# Altium footprint library 2020-03-28_05-44-17.PcbLib: 3 footprints
Each footprint in its own frame and in the unit in brackets; x right, y up, seen from the top. Pads: shape width x height; smd on the part's side, far side on the other; paste and mask are expansions set on the pad; w line width, h text height; cw(c..) or ccw(c..) is an arc to the next point about the centre after c.
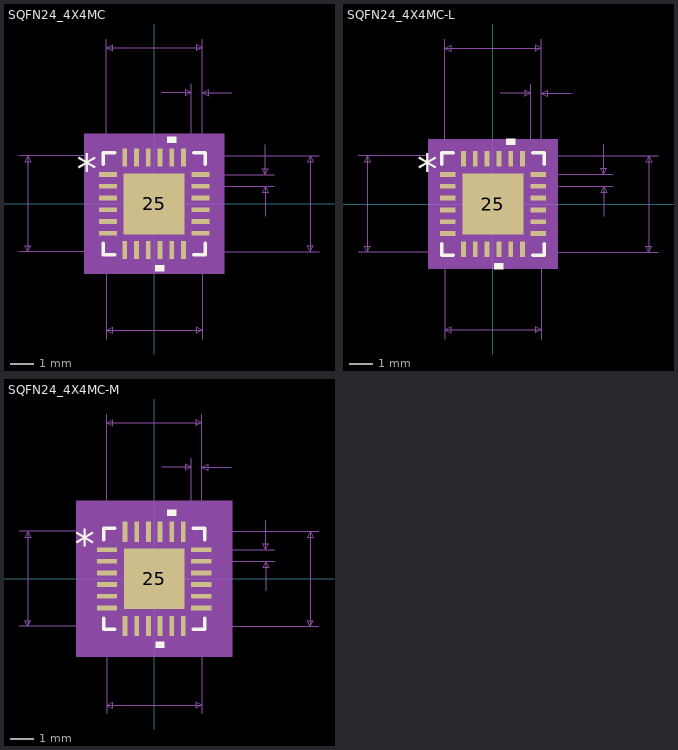
[diagram p0: the footprints below, top view; thin cyan lines are the x and y axes]

## SQFN24_4X4MC [mil]
pads (25):
  rect 30x8 smd paste+0 mask+0: 1(-77.5,49.21) 2(-77.5,29.53) 3(-77.5,9.84) 4(-77.5,-9.84) 5(-77.5,-29.53) 6(-77.5,-49.21) 13(77.5,-49.21) 14(77.5,-29.53) 15(77.5,-9.84) 16(77.5,9.84) 17(77.5,29.53) 18(77.5,49.21)
  rect 8x30 smd paste+0 mask+0: 7(-49.21,-77.5) 8(-29.53,-77.5) 9(-9.84,-77.5) 10(9.84,-77.5) 11(29.53,-77.5) 12(49.21,-77.5) 19(49.21,77.5) 20(29.53,77.5) 21(9.84,77.5) 22(-9.84,77.5) 23(-29.53,77.5) 24(-49.21,77.5)
  rect 102x102 smd paste-50.5 mask+0: 25(0,0)
Top Overlay:
  region: 17.34,-102.5 2.34,-102.5 2.34,-112.5 17.34,-112.5
  region: 37.03,102.5 22.03,102.5 22.03,112.5 37.03,112.5
  lines w6: -85.5,-66.31 -85.5,-85.5 -66.31,-85.5 ; -85.5,66.31 -85.5,85.5 -66.31,85.5 ; 66.31,-85.5 85.5,-85.5 85.5,-66.31 ; 66.31,85.5 85.5,85.5 85.5,66.31
  text "*" at -130,34.06 h50
Top Paste:
  region: -3.94,47.06 -47.06,47.06 -47.06,3.94 -3.94,3.94
  region: -3.94,-3.94 -47.06,-3.94 -47.06,-47.06 -3.94,-47.06
  region: 47.06,47.06 3.94,47.06 3.94,3.94 47.06,3.94
  region: 47.06,-3.94 3.94,-3.94 3.94,-47.06 47.06,-47.06
Mechanical 5:
  region: 117.5,-117.5 -117.5,-117.5 -117.5,117.5 117.5,117.5
Mechanical 7:
  lines w1: -226.5,-80.5 80.5,-80.5 ; -226.5,80.5 80.5,80.5 80.5,-226.5 ; -80.5,-226.5 -80.5,80.5 ; -80.5,49.21 -80.5,276.5 ; 12.5,186.5 62.5,186.5 ; 49.21,-80.5 276.5,-80.5 ; 49.21,80.5 276.5,80.5 ; 62.5,49.21 62.5,201.5 ; 77.5,29.53 201.5,29.53 ; 77.5,49.21 201.5,49.21 ; 80.5,201.5 80.5,49.21 80.5,276.5 ; 130.5,186.5 80.5,186.5 ; 186.5,-20.47 186.5,29.53 ; 186.5,99.21 186.5,49.21 ; -211.5,-80.5 -211.5,80.5 ; -211.5,-80.5 -216.5,-70.5 -206.5,-70.5 -211.5,-80.5 ; -211.5,80.5 -216.5,70.5 -206.5,70.5 -211.5,80.5 ; -80.5,-211.5 80.5,-211.5 ; -80.5,-211.5 -70.5,-206.5 -70.5,-216.5 -80.5,-211.5 ; -80.5,261.5 80.5,261.5 ; -80.5,261.5 -70.5,266.5 -70.5,256.5 -80.5,261.5 ; 62.5,186.5 52.5,191.5 52.5,181.5 62.5,186.5 ; 80.5,-211.5 70.5,-206.5 70.5,-216.5 80.5,-211.5 ; 80.5,186.5 90.5,191.5 90.5,181.5 80.5,186.5 ; 80.5,261.5 70.5,266.5 70.5,256.5 80.5,261.5 ; 186.5,29.53 181.5,19.53 191.5,19.53 186.5,29.53 ; 186.5,49.21 181.5,59.21 191.5,59.21 186.5,49.21 ; 261.5,-80.5 261.5,80.5 ; 261.5,-80.5 256.5,-70.5 266.5,-70.5 261.5,-80.5 ; 261.5,80.5 256.5,70.5 266.5,70.5 261.5,80.5
  text "Default Padstyle: RX8Y30D0T" at -337.5,-402.5 h50
  text "Heat Tab Padstyle: RX102Y102D0T" at -387.5,-462.5 h50
  text "Alt 1 Padstyle: OX60Y90D30P" at -337.5,-582.5 h50
  text "Alt 2 Padstyle: OX90Y60D30P" at -337.5,-642.5 h50
  text "0.02in/0.5mm" at 206.5,26.87 h25
  text "0.018in/0.457mm" at -22.25,206.5 h25
  text "0.161in/4.089mm" at -93.75,281.5 h25
  text "0.161in/4.089mm" at 281.5,-12.5 h25
  text "0.161in/4.089mm" at -419,-12.5 h25
  text "0.161in/4.089mm" at -93.75,-256.5 h25
Mechanical 13:
  lines w1: -80.5,30.5 -30.5,80.5 ; -80.5,-80.5 80.5,-80.5 ; -80.5,-80.5 -80.5,80.5 ; -80.5,-80.5 -80.5,-80.5 ; -80.5,-55.21 -80.5,-43.21 ; -80.5,-55.21 -80.5,-43.21 ; -80.5,-55.21 -80.5,-55.21 ; -80.5,-43.21 -80.5,-43.21 ; -80.5,-35.53 -80.5,-23.53 ; -80.5,-35.53 -80.5,-23.53 ; -80.5,-35.53 -80.5,-35.53 ; -80.5,-23.53 -80.5,-23.53 ; -80.5,-15.84 -80.5,-3.84 ; -80.5,-15.84 -80.5,-3.84 ; -80.5,-15.84 -80.5,-15.84 ; -80.5,-3.84 -80.5,-3.84 ; -80.5,3.84 -80.5,15.84 ; -80.5,3.84 -80.5,15.84 ; -80.5,3.84 -80.5,3.84 ; -80.5,15.84 -80.5,15.84 ; -80.5,23.53 -80.5,35.53 ; -80.5,23.53 -80.5,35.53 ; -80.5,23.53 -80.5,23.53 ; -80.5,35.53 -80.5,35.53 ; -80.5,43.21 -80.5,55.21 ; -80.5,43.21 -80.5,55.21 ; -80.5,43.21 -80.5,43.21 ; -80.5,55.21 -80.5,55.21 ; -80.5,80.5 80.5,80.5 ; -80.5,80.5 -80.5,80.5 ; -55.21,-80.5 -43.21,-80.5 ; -55.21,-80.5 -55.21,-80.5 ; -55.21,-80.5 -43.21,-80.5 ; -55.21,80.5 -43.21,80.5 ; -55.21,80.5 -43.21,80.5 ; -55.21,80.5 -55.21,80.5 ; -43.21,-80.5 -43.21,-80.5 ; -43.21,80.5 -43.21,80.5 ; -35.53,-80.5 -23.53,-80.5 ; -35.53,-80.5 -35.53,-80.5 ; -35.53,-80.5 -23.53,-80.5 ; -35.53,80.5 -23.53,80.5 ; -35.53,80.5 -23.53,80.5 ; -35.53,80.5 -35.53,80.5 ; -23.53,-80.5 -23.53,-80.5 ; -23.53,80.5 -23.53,80.5 ; -15.84,-80.5 -3.84,-80.5 ; -15.84,-80.5 -15.84,-80.5 ; -15.84,-80.5 -3.84,-80.5 ; -15.84,80.5 -3.84,80.5 ; -15.84,80.5 -3.84,80.5 ; -15.84,80.5 -15.84,80.5 ; -3.84,-80.5 -3.84,-80.5 ; -3.84,80.5 -3.84,80.5 ; 3.84,-80.5 15.84,-80.5 ; 3.84,-80.5 3.84,-80.5 ; 3.84,-80.5 15.84,-80.5 ; 3.84,80.5 15.84,80.5 ; 3.84,80.5 15.84,80.5 ; 3.84,80.5 3.84,80.5 ; 15.84,-80.5 15.84,-80.5 ; 15.84,80.5 15.84,80.5 ; 23.53,-80.5 35.53,-80.5 ; 23.53,-80.5 23.53,-80.5 ; 23.53,-80.5 35.53,-80.5 ; 23.53,80.5 35.53,80.5 ; 23.53,80.5 35.53,80.5 ; 23.53,80.5 23.53,80.5 ; 35.53,-80.5 35.53,-80.5 ; 35.53,80.5 35.53,80.5 ; 43.21,-80.5 55.21,-80.5 ; 43.21,-80.5 43.21,-80.5 ; 43.21,-80.5 55.21,-80.5 ; 43.21,80.5 55.21,80.5 ; 43.21,80.5 55.21,80.5 ; 43.21,80.5 43.21,80.5 ; 55.21,-80.5 55.21,-80.5 ; 55.21,80.5 55.21,80.5 ; 80.5,-80.5 80.5,-80.5 ; 80.5,-80.5 80.5,80.5 ; 80.5,-55.21 80.5,-43.21 ; 80.5,-55.21 80.5,-55.21 ; 80.5,-55.21 80.5,-43.21 ; 80.5,-43.21 80.5,-43.21 ; 80.5,-35.53 80.5,-23.53 ; 80.5,-35.53 80.5,-35.53 ; 80.5,-35.53 80.5,-23.53 ; 80.5,-23.53 80.5,-23.53 ; 80.5,-15.84 80.5,-3.84 ; 80.5,-15.84 80.5,-15.84 ; 80.5,-15.84 80.5,-3.84 ; 80.5,-3.84 80.5,-3.84 ; 80.5,3.84 80.5,15.84 ; 80.5,3.84 80.5,3.84 ; 80.5,3.84 80.5,15.84 ; 80.5,15.84 80.5,15.84 ; 80.5,23.53 80.5,35.53 ; 80.5,23.53 80.5,23.53 ; 80.5,23.53 80.5,35.53 ; 80.5,35.53 80.5,35.53 ; 80.5,43.21 80.5,55.21 ; 80.5,43.21 80.5,43.21 ; 80.5,43.21 80.5,55.21 ; 80.5,55.21 80.5,55.21 ; 80.5,80.5 80.5,80.5
  text "*" at -75,34.06 h50
Mechanical 15:
  region: -63.21,-90.5 -90.5,-90.5 -90.5,-63.21 -102.5,-63.21 -102.5,63.21 -90.5,63.21 -90.5,90.5 -63.21,90.5 -63.21,102.5 63.21,102.5 63.21,90.5 90.5,90.5 90.5,63.21 102.5,63.21 102.5,-63.21 90.5,-63.21 90.5,-90.5 63.21,-90.5 63.21,-102.5 -63.21,-102.5
  lines w6: -102.5,-63.21 -90.5,-63.21 -90.5,-90.5 -63.21,-90.5 -63.21,-102.5 63.21,-102.5 63.21,-90.5 90.5,-90.5 90.5,-63.21 102.5,-63.21 102.5,63.21 90.5,63.21 90.5,90.5 63.21,90.5 63.21,102.5 -63.21,102.5 -63.21,90.5 -90.5,90.5 -90.5,63.21 -102.5,63.21 -102.5,-63.21
3D body: height 10, standoff 0, extent 0,0 10,10

## SQFN24_4X4MC-L [mil]
pads (25):
  rect 26x8 smd paste+0 mask+0: 1(-75.5,49.21) 2(-75.5,29.53) 3(-75.5,9.84) 4(-75.5,-9.84) 5(-75.5,-29.53) 6(-75.5,-49.21) 13(75.5,-49.21) 14(75.5,-29.53) 15(75.5,-9.84) 16(75.5,9.84) 17(75.5,29.53) 18(75.5,49.21)
  rect 8x26 smd paste+0 mask+0: 7(-49.21,-75.5) 8(-29.53,-75.5) 9(-9.84,-75.5) 10(9.84,-75.5) 11(29.53,-75.5) 12(49.21,-75.5) 19(49.21,75.5) 20(29.53,75.5) 21(9.84,75.5) 22(-9.84,75.5) 23(-29.53,75.5) 24(-49.21,75.5)
  rect 102x102 smd paste-50.5 mask+0: 25(0,0)
Top Overlay:
  region: 17.34,-98.5 2.34,-98.5 2.34,-108.5 17.34,-108.5
  region: 37.03,98.5 22.03,98.5 22.03,108.5 37.03,108.5
  lines w6: -85.5,-66.31 -85.5,-85.5 -66.31,-85.5 ; -85.5,66.31 -85.5,85.5 -66.31,85.5 ; 66.31,-85.5 85.5,-85.5 85.5,-66.31 ; 66.31,85.5 85.5,85.5 85.5,66.31
  text "*" at -126,34.06 h50
Top Paste:
  region: -3.94,47.06 -47.06,47.06 -47.06,3.94 -3.94,3.94
  region: -3.94,-3.94 -47.06,-3.94 -47.06,-47.06 -3.94,-47.06
  region: 47.06,47.06 3.94,47.06 3.94,3.94 47.06,3.94
  region: 47.06,-3.94 3.94,-3.94 3.94,-47.06 47.06,-47.06
Mechanical 5:
  region: 107.5,-107.5 -107.5,-107.5 -107.5,107.5 107.5,107.5
Mechanical 7:
  lines w1: -224.5,-80.5 80.5,-80.5 ; -224.5,80.5 80.5,80.5 80.5,-224.5 ; -80.5,-224.5 -80.5,80.5 ; -80.5,49.21 -80.5,274.5 ; 12.5,184.5 62.5,184.5 ; 49.21,-80.5 274.5,-80.5 ; 49.21,80.5 274.5,80.5 ; 62.5,49.21 62.5,199.5 ; 75.5,29.53 199.5,29.53 ; 75.5,49.21 199.5,49.21 ; 80.5,199.5 80.5,49.21 80.5,274.5 ; 130.5,184.5 80.5,184.5 ; 184.5,-20.47 184.5,29.53 ; 184.5,99.21 184.5,49.21 ; -209.5,-80.5 -209.5,80.5 ; -209.5,-80.5 -214.5,-70.5 -204.5,-70.5 -209.5,-80.5 ; -209.5,80.5 -214.5,70.5 -204.5,70.5 -209.5,80.5 ; -80.5,-209.5 80.5,-209.5 ; -80.5,-209.5 -70.5,-204.5 -70.5,-214.5 -80.5,-209.5 ; -80.5,259.5 80.5,259.5 ; -80.5,259.5 -70.5,264.5 -70.5,254.5 -80.5,259.5 ; 62.5,184.5 52.5,189.5 52.5,179.5 62.5,184.5 ; 80.5,-209.5 70.5,-204.5 70.5,-214.5 80.5,-209.5 ; 80.5,184.5 90.5,189.5 90.5,179.5 80.5,184.5 ; 80.5,259.5 70.5,264.5 70.5,254.5 80.5,259.5 ; 184.5,29.53 179.5,19.53 189.5,19.53 184.5,29.53 ; 184.5,49.21 179.5,59.21 189.5,59.21 184.5,49.21 ; 259.5,-80.5 259.5,80.5 ; 259.5,-80.5 254.5,-70.5 264.5,-70.5 259.5,-80.5 ; 259.5,80.5 254.5,70.5 264.5,70.5 259.5,80.5
  text "Default Padstyle: RX8Y26D0T" at -337.5,-398.5 h50
  text "Heat Tab Padstyle: RX102Y102D0T" at -387.5,-458.5 h50
  text "Alt 1 Padstyle: OX60Y90D30P" at -337.5,-578.5 h50
  text "Alt 2 Padstyle: OX90Y60D30P" at -337.5,-638.5 h50
  text "0.02in/0.5mm" at 204.5,26.87 h25
  text "0.018in/0.457mm" at -22.25,204.5 h25
  text "0.161in/4.089mm" at -93.75,279.5 h25
  text "0.161in/4.089mm" at 279.5,-12.5 h25
  text "0.161in/4.089mm" at -417,-12.5 h25
  text "0.161in/4.089mm" at -93.75,-254.5 h25
Mechanical 13:
  lines w1: -80.5,30.5 -30.5,80.5 ; -80.5,-80.5 80.5,-80.5 ; -80.5,-80.5 -80.5,80.5 ; -80.5,-80.5 -80.5,-80.5 ; -80.5,-55.21 -80.5,-43.21 ; -80.5,-55.21 -80.5,-43.21 ; -80.5,-55.21 -80.5,-55.21 ; -80.5,-43.21 -80.5,-43.21 ; -80.5,-35.53 -80.5,-23.53 ; -80.5,-35.53 -80.5,-23.53 ; -80.5,-35.53 -80.5,-35.53 ; -80.5,-23.53 -80.5,-23.53 ; -80.5,-15.84 -80.5,-3.84 ; -80.5,-15.84 -80.5,-3.84 ; -80.5,-15.84 -80.5,-15.84 ; -80.5,-3.84 -80.5,-3.84 ; -80.5,3.84 -80.5,15.84 ; -80.5,3.84 -80.5,15.84 ; -80.5,3.84 -80.5,3.84 ; -80.5,15.84 -80.5,15.84 ; -80.5,23.53 -80.5,35.53 ; -80.5,23.53 -80.5,35.53 ; -80.5,23.53 -80.5,23.53 ; -80.5,35.53 -80.5,35.53 ; -80.5,43.21 -80.5,55.21 ; -80.5,43.21 -80.5,55.21 ; -80.5,43.21 -80.5,43.21 ; -80.5,55.21 -80.5,55.21 ; -80.5,80.5 80.5,80.5 ; -80.5,80.5 -80.5,80.5 ; -55.21,-80.5 -43.21,-80.5 ; -55.21,-80.5 -55.21,-80.5 ; -55.21,-80.5 -43.21,-80.5 ; -55.21,80.5 -43.21,80.5 ; -55.21,80.5 -43.21,80.5 ; -55.21,80.5 -55.21,80.5 ; -43.21,-80.5 -43.21,-80.5 ; -43.21,80.5 -43.21,80.5 ; -35.53,-80.5 -23.53,-80.5 ; -35.53,-80.5 -35.53,-80.5 ; -35.53,-80.5 -23.53,-80.5 ; -35.53,80.5 -23.53,80.5 ; -35.53,80.5 -23.53,80.5 ; -35.53,80.5 -35.53,80.5 ; -23.53,-80.5 -23.53,-80.5 ; -23.53,80.5 -23.53,80.5 ; -15.84,-80.5 -3.84,-80.5 ; -15.84,-80.5 -15.84,-80.5 ; -15.84,-80.5 -3.84,-80.5 ; -15.84,80.5 -3.84,80.5 ; -15.84,80.5 -3.84,80.5 ; -15.84,80.5 -15.84,80.5 ; -3.84,-80.5 -3.84,-80.5 ; -3.84,80.5 -3.84,80.5 ; 3.84,-80.5 15.84,-80.5 ; 3.84,-80.5 3.84,-80.5 ; 3.84,-80.5 15.84,-80.5 ; 3.84,80.5 15.84,80.5 ; 3.84,80.5 15.84,80.5 ; 3.84,80.5 3.84,80.5 ; 15.84,-80.5 15.84,-80.5 ; 15.84,80.5 15.84,80.5 ; 23.53,-80.5 35.53,-80.5 ; 23.53,-80.5 23.53,-80.5 ; 23.53,-80.5 35.53,-80.5 ; 23.53,80.5 35.53,80.5 ; 23.53,80.5 35.53,80.5 ; 23.53,80.5 23.53,80.5 ; 35.53,-80.5 35.53,-80.5 ; 35.53,80.5 35.53,80.5 ; 43.21,-80.5 55.21,-80.5 ; 43.21,-80.5 43.21,-80.5 ; 43.21,-80.5 55.21,-80.5 ; 43.21,80.5 55.21,80.5 ; 43.21,80.5 55.21,80.5 ; 43.21,80.5 43.21,80.5 ; 55.21,-80.5 55.21,-80.5 ; 55.21,80.5 55.21,80.5 ; 80.5,-80.5 80.5,-80.5 ; 80.5,-80.5 80.5,80.5 ; 80.5,-55.21 80.5,-43.21 ; 80.5,-55.21 80.5,-55.21 ; 80.5,-55.21 80.5,-43.21 ; 80.5,-43.21 80.5,-43.21 ; 80.5,-35.53 80.5,-23.53 ; 80.5,-35.53 80.5,-35.53 ; 80.5,-35.53 80.5,-23.53 ; 80.5,-23.53 80.5,-23.53 ; 80.5,-15.84 80.5,-3.84 ; 80.5,-15.84 80.5,-15.84 ; 80.5,-15.84 80.5,-3.84 ; 80.5,-3.84 80.5,-3.84 ; 80.5,3.84 80.5,15.84 ; 80.5,3.84 80.5,3.84 ; 80.5,3.84 80.5,15.84 ; 80.5,15.84 80.5,15.84 ; 80.5,23.53 80.5,35.53 ; 80.5,23.53 80.5,23.53 ; 80.5,23.53 80.5,35.53 ; 80.5,35.53 80.5,35.53 ; 80.5,43.21 80.5,55.21 ; 80.5,43.21 80.5,43.21 ; 80.5,43.21 80.5,55.21 ; 80.5,55.21 80.5,55.21 ; 80.5,80.5 80.5,80.5
  text "*" at -75,34.06 h50
Mechanical 15:
  region: -57.21,-84.5 -84.5,-84.5 -84.5,-57.21 -92.5,-57.21 -92.5,57.21 -84.5,57.21 -84.5,84.5 -57.21,84.5 -57.21,92.5 57.21,92.5 57.21,84.5 84.5,84.5 84.5,57.21 92.5,57.21 92.5,-57.21 84.5,-57.21 84.5,-84.5 57.21,-84.5 57.21,-92.5 -57.21,-92.5
  lines w6: -92.5,-57.21 -84.5,-57.21 -84.5,-84.5 -57.21,-84.5 -57.21,-92.5 57.21,-92.5 57.21,-84.5 84.5,-84.5 84.5,-57.21 92.5,-57.21 92.5,57.21 84.5,57.21 84.5,84.5 57.21,84.5 57.21,92.5 -57.21,92.5 -57.21,84.5 -84.5,84.5 -84.5,57.21 -92.5,57.21 -92.5,-57.21
3D body: height 10, standoff 0, extent 0,0 10,10

## SQFN24_4X4MC-M [mil]
pads (25):
  rect 34x8 smd paste+0 mask+0: 1(-79.5,49.21) 2(-79.5,29.53) 3(-79.5,9.84) 4(-79.5,-9.84) 5(-79.5,-29.53) 6(-79.5,-49.21) 13(79.5,-49.21) 14(79.5,-29.53) 15(79.5,-9.84) 16(79.5,9.84) 17(79.5,29.53) 18(79.5,49.21)
  rect 8x34 smd paste+0 mask+0: 7(-49.21,-79.5) 8(-29.53,-79.5) 9(-9.84,-79.5) 10(9.84,-79.5) 11(29.53,-79.5) 12(49.21,-79.5) 19(49.21,79.5) 20(29.53,79.5) 21(9.84,79.5) 22(-9.84,79.5) 23(-29.53,79.5) 24(-49.21,79.5)
  rect 102x102 smd paste-50.5 mask+0: 25(0,0)
Top Overlay:
  region: 17.34,-106.5 2.34,-106.5 2.34,-116.5 17.34,-116.5
  region: 37.03,106.5 22.03,106.5 22.03,116.5 37.03,116.5
  lines w6: -85.5,-66.31 -85.5,-85.5 -66.31,-85.5 ; -85.5,66.31 -85.5,85.5 -66.31,85.5 ; 66.31,-85.5 85.5,-85.5 85.5,-66.31 ; 66.31,85.5 85.5,85.5 85.5,66.31
  text "*" at -134,34.06 h50
Top Paste:
  region: -3.94,47.06 -47.06,47.06 -47.06,3.94 -3.94,3.94
  region: -3.94,-3.94 -47.06,-3.94 -47.06,-47.06 -3.94,-47.06
  region: 47.06,47.06 3.94,47.06 3.94,3.94 47.06,3.94
  region: 47.06,-3.94 3.94,-3.94 3.94,-47.06 47.06,-47.06
Mechanical 5:
  region: 131.5,-131.5 -131.5,-131.5 -131.5,131.5 131.5,131.5
Mechanical 7:
  lines w1: -228.5,-80.5 80.5,-80.5 ; -228.5,80.5 80.5,80.5 80.5,-228.5 ; -80.5,-228.5 -80.5,80.5 ; -80.5,49.21 -80.5,278.5 ; 12.5,188.5 62.5,188.5 ; 49.21,-80.5 278.5,-80.5 ; 49.21,80.5 278.5,80.5 ; 62.5,49.21 62.5,203.5 ; 79.5,29.53 203.5,29.53 ; 79.5,49.21 203.5,49.21 ; 80.5,203.5 80.5,49.21 80.5,278.5 ; 130.5,188.5 80.5,188.5 ; 188.5,-20.47 188.5,29.53 ; 188.5,99.21 188.5,49.21 ; -213.5,-80.5 -213.5,80.5 ; -213.5,-80.5 -218.5,-70.5 -208.5,-70.5 -213.5,-80.5 ; -213.5,80.5 -218.5,70.5 -208.5,70.5 -213.5,80.5 ; -80.5,-213.5 80.5,-213.5 ; -80.5,-213.5 -70.5,-208.5 -70.5,-218.5 -80.5,-213.5 ; -80.5,263.5 80.5,263.5 ; -80.5,263.5 -70.5,268.5 -70.5,258.5 -80.5,263.5 ; 62.5,188.5 52.5,193.5 52.5,183.5 62.5,188.5 ; 80.5,-213.5 70.5,-208.5 70.5,-218.5 80.5,-213.5 ; 80.5,188.5 90.5,193.5 90.5,183.5 80.5,188.5 ; 80.5,263.5 70.5,268.5 70.5,258.5 80.5,263.5 ; 188.5,29.53 183.5,19.53 193.5,19.53 188.5,29.53 ; 188.5,49.21 183.5,59.21 193.5,59.21 188.5,49.21 ; 263.5,-80.5 263.5,80.5 ; 263.5,-80.5 258.5,-70.5 268.5,-70.5 263.5,-80.5 ; 263.5,80.5 258.5,70.5 268.5,70.5 263.5,80.5
  text "Default Padstyle: RX8Y34D0T" at -337.5,-406.5 h50
  text "Heat Tab Padstyle: RX102Y102D0T" at -387.5,-466.5 h50
  text "Alt 1 Padstyle: OX60Y90D30P" at -337.5,-586.5 h50
  text "Alt 2 Padstyle: OX90Y60D30P" at -337.5,-646.5 h50
  text "0.02in/0.5mm" at 208.5,26.87 h25
  text "0.018in/0.457mm" at -22.25,208.5 h25
  text "0.161in/4.089mm" at -93.75,283.5 h25
  text "0.161in/4.089mm" at 283.5,-12.5 h25
  text "0.161in/4.089mm" at -421,-12.5 h25
  text "0.161in/4.089mm" at -93.75,-258.5 h25
Mechanical 13:
  lines w1: -80.5,30.5 -30.5,80.5 ; -80.5,-80.5 80.5,-80.5 ; -80.5,-80.5 -80.5,80.5 ; -80.5,-80.5 -80.5,-80.5 ; -80.5,-55.21 -80.5,-43.21 ; -80.5,-55.21 -80.5,-43.21 ; -80.5,-55.21 -80.5,-55.21 ; -80.5,-43.21 -80.5,-43.21 ; -80.5,-35.53 -80.5,-23.53 ; -80.5,-35.53 -80.5,-23.53 ; -80.5,-35.53 -80.5,-35.53 ; -80.5,-23.53 -80.5,-23.53 ; -80.5,-15.84 -80.5,-3.84 ; -80.5,-15.84 -80.5,-3.84 ; -80.5,-15.84 -80.5,-15.84 ; -80.5,-3.84 -80.5,-3.84 ; -80.5,3.84 -80.5,15.84 ; -80.5,3.84 -80.5,15.84 ; -80.5,3.84 -80.5,3.84 ; -80.5,15.84 -80.5,15.84 ; -80.5,23.53 -80.5,35.53 ; -80.5,23.53 -80.5,35.53 ; -80.5,23.53 -80.5,23.53 ; -80.5,35.53 -80.5,35.53 ; -80.5,43.21 -80.5,55.21 ; -80.5,43.21 -80.5,55.21 ; -80.5,43.21 -80.5,43.21 ; -80.5,55.21 -80.5,55.21 ; -80.5,80.5 80.5,80.5 ; -80.5,80.5 -80.5,80.5 ; -55.21,-80.5 -43.21,-80.5 ; -55.21,-80.5 -55.21,-80.5 ; -55.21,-80.5 -43.21,-80.5 ; -55.21,80.5 -43.21,80.5 ; -55.21,80.5 -43.21,80.5 ; -55.21,80.5 -55.21,80.5 ; -43.21,-80.5 -43.21,-80.5 ; -43.21,80.5 -43.21,80.5 ; -35.53,-80.5 -23.53,-80.5 ; -35.53,-80.5 -35.53,-80.5 ; -35.53,-80.5 -23.53,-80.5 ; -35.53,80.5 -23.53,80.5 ; -35.53,80.5 -23.53,80.5 ; -35.53,80.5 -35.53,80.5 ; -23.53,-80.5 -23.53,-80.5 ; -23.53,80.5 -23.53,80.5 ; -15.84,-80.5 -3.84,-80.5 ; -15.84,-80.5 -15.84,-80.5 ; -15.84,-80.5 -3.84,-80.5 ; -15.84,80.5 -3.84,80.5 ; -15.84,80.5 -3.84,80.5 ; -15.84,80.5 -15.84,80.5 ; -3.84,-80.5 -3.84,-80.5 ; -3.84,80.5 -3.84,80.5 ; 3.84,-80.5 15.84,-80.5 ; 3.84,-80.5 3.84,-80.5 ; 3.84,-80.5 15.84,-80.5 ; 3.84,80.5 15.84,80.5 ; 3.84,80.5 15.84,80.5 ; 3.84,80.5 3.84,80.5 ; 15.84,-80.5 15.84,-80.5 ; 15.84,80.5 15.84,80.5 ; 23.53,-80.5 35.53,-80.5 ; 23.53,-80.5 23.53,-80.5 ; 23.53,-80.5 35.53,-80.5 ; 23.53,80.5 35.53,80.5 ; 23.53,80.5 35.53,80.5 ; 23.53,80.5 23.53,80.5 ; 35.53,-80.5 35.53,-80.5 ; 35.53,80.5 35.53,80.5 ; 43.21,-80.5 55.21,-80.5 ; 43.21,-80.5 43.21,-80.5 ; 43.21,-80.5 55.21,-80.5 ; 43.21,80.5 55.21,80.5 ; 43.21,80.5 55.21,80.5 ; 43.21,80.5 43.21,80.5 ; 55.21,-80.5 55.21,-80.5 ; 55.21,80.5 55.21,80.5 ; 80.5,-80.5 80.5,-80.5 ; 80.5,-80.5 80.5,80.5 ; 80.5,-55.21 80.5,-43.21 ; 80.5,-55.21 80.5,-55.21 ; 80.5,-55.21 80.5,-43.21 ; 80.5,-43.21 80.5,-43.21 ; 80.5,-35.53 80.5,-23.53 ; 80.5,-35.53 80.5,-35.53 ; 80.5,-35.53 80.5,-23.53 ; 80.5,-23.53 80.5,-23.53 ; 80.5,-15.84 80.5,-3.84 ; 80.5,-15.84 80.5,-15.84 ; 80.5,-15.84 80.5,-3.84 ; 80.5,-3.84 80.5,-3.84 ; 80.5,3.84 80.5,15.84 ; 80.5,3.84 80.5,3.84 ; 80.5,3.84 80.5,15.84 ; 80.5,15.84 80.5,15.84 ; 80.5,23.53 80.5,35.53 ; 80.5,23.53 80.5,23.53 ; 80.5,23.53 80.5,35.53 ; 80.5,35.53 80.5,35.53 ; 80.5,43.21 80.5,55.21 ; 80.5,43.21 80.5,43.21 ; 80.5,43.21 80.5,55.21 ; 80.5,55.21 80.5,55.21 ; 80.5,80.5 80.5,80.5
  text "*" at -75,34.06 h50
Mechanical 15:
  region: -73.21,-100.5 -100.5,-100.5 -100.5,-73.21 -116.5,-73.21 -116.5,73.21 -100.5,73.21 -100.5,100.5 -73.21,100.5 -73.21,116.5 73.21,116.5 73.21,100.5 100.5,100.5 100.5,73.21 116.5,73.21 116.5,-73.21 100.5,-73.21 100.5,-100.5 73.21,-100.5 73.21,-116.5 -73.21,-116.5
  lines w6: -116.5,-73.21 -100.5,-73.21 -100.5,-100.5 -73.21,-100.5 -73.21,-116.5 73.21,-116.5 73.21,-100.5 100.5,-100.5 100.5,-73.21 116.5,-73.21 116.5,73.21 100.5,73.21 100.5,100.5 73.21,100.5 73.21,116.5 -73.21,116.5 -73.21,100.5 -100.5,100.5 -100.5,73.21 -116.5,73.21 -116.5,-73.21
3D body: height 10, standoff 0, extent 0,0 10,10